# Altium footprint library DM1098FFC.PcbLib: 4 footprints
Each footprint in its own frame and in the unit in brackets; x right, y up, seen from the top. Pads: shape width x height; smd on the part's side, far side on the other; paste and mask are expansions set on the pad; w line width, h text height; cw(c..) or ccw(c..) is an arc to the next point about the centre after c.
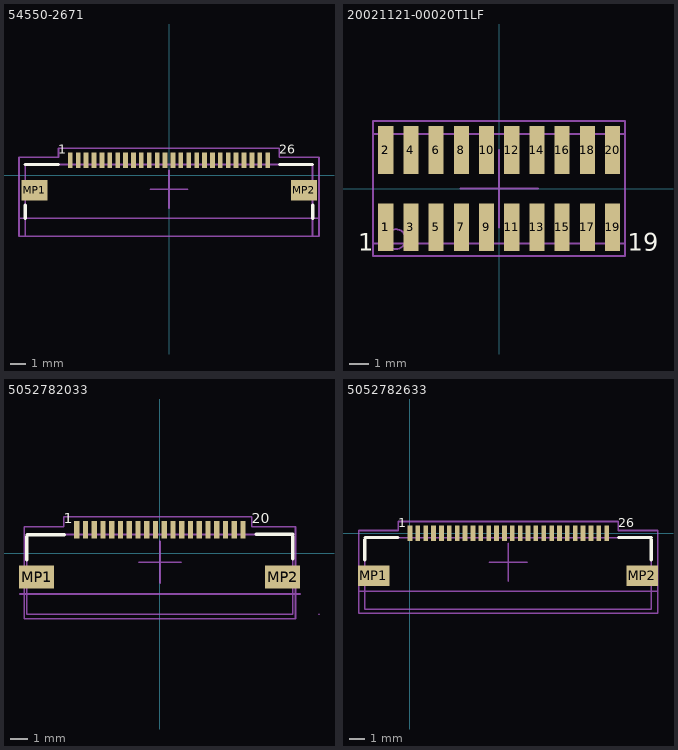
[diagram p0: the footprints below, top view; thin cyan lines are the x and y axes]

## 54550-2671 [mm] "26pin Molex FFC 0.5mm TOP"
height 1.2
pads (28):
  rect 0.3x1 smd: 1(-6.262,0.95) 2(-5.762,0.95) 3(-5.262,0.95) 4(-4.762,0.95) 5(-4.262,0.95) 6(-3.762,0.95) 7(-3.262,0.95) 8(-2.762,0.95) 9(-2.262,0.95) 10(-1.762,0.95) 11(-1.262,0.95) 12(-0.762,0.95) 13(-0.262,0.95) 14(0.238,0.95) 15(0.738,0.95) 16(1.238,0.95) 17(1.738,0.95) 18(2.238,0.95) 19(2.738,0.95) 20(3.238,0.95) 21(3.738,0.95) 22(4.238,0.95) 23(4.738,0.95) 24(5.238,0.95) 25(5.738,0.95) 26(6.238,0.95)
  rect 1.65x1.3 smd: MP1(-8.537,-0.95) MP2(8.538,-0.95)
Top Overlay:
  lines w0.2: -9.112,-2.75 -9.112,-1.89 ; -9.112,0.678 -7.012,0.678 ; 6.977,0.678 9.077,0.678 ; 9.088,-2.75 9.088,-1.89
  text "26" at 6.977,1.128 h1
  text "1" at -7.012,1.128 h1
Top Assembly:
  lines w0.1: -9.512,-3.872 9.488,-3.872 9.488,1.128 6.977,1.128 6.977,1.7 -7.012,1.7 -7.012,1.128 -9.512,1.128 -9.512,-3.872
  text "'.Designator'" at -3.112,-1.6 h1.52
Top Courtyard:
  lines w0.1: -9.512,-2.722 9.488,-2.722 ; -1.212,-0.9 -0.012,-0.9 ; -0.012,-2.1 -0.012,-0.9 ; -0.012,0.3 -0.012,-0.9 ; 1.188,-0.9 -0.012,-0.9 ; -9.512,-3.872 -9.512,-3.662 -9.512,1.128 -7.012,1.128 -7.012,1.7 6.977,1.7 6.977,1.128 9.488,1.128 9.488,-3.872 -9.122,-3.872 -9.512,-3.872
Top Component Outline:
  lines w0.1: -9.122,-3.872 -9.122,0.678 -9.114,0.678 9.077,0.678 9.077,-3.872 9.078,-3.872 -9.122,-3.872
3D body "545502671.stp": height 1.2, standoff 0, extent -9.122,-3.872 9.078,1.128

## 20021121-00020T1LF [mm] "20pin SMT Minitek127 1.27mm pitch"
pads (22):
  rect 0.76x2.4 smd: 1(-5.715,-1.95) 1(-5.715,-1.95) 2(-5.715,1.95) 2(-5.715,1.95) 3(-4.445,-1.95) 4(-4.445,1.95) 5(-3.175,-1.95) 6(-3.175,1.95) 7(-1.905,-1.95) 8(-1.905,1.95) 9(-0.635,-1.95) 10(-0.635,1.95) 11(0.635,-1.95) 12(0.635,1.95) 13(1.905,-1.95) 14(1.905,1.95) 15(3.175,-1.95) 16(3.175,1.95) 17(4.445,-1.95) 18(4.445,1.95) 19(5.715,-1.95) 20(5.715,1.95)
Top Overlay:
  text "1" at -7.112,-3.429 h1.52
  text "19" at 6.477,-3.429 h1.52
Top Assembly:
  lines w0.1: -6.35,-3.4 6.35,-3.4 6.35,3.4 -6.35,3.4 -6.35,-3.4 ; -4.699,-2.54 ccw(c-5.199,-2.54) -4.699,-2.54
  text "'.Designator'" at -4.445,0 h1.52
Top Courtyard:
  lines w0.1: -1.95,0 0.009,0 ; -0.009,0 1.95,0 ; 0,-1.95 0,0.009 ; 0,0 0,1.95 ; -6.35,-3.4 -6.35,3.4 6.35,3.4 6.35,-3.4 -6.35,-3.4
Top Component Outline:
  lines w0.1: -6.35,-2.75 -6.35,2.75 6.35,2.75 6.35,-2.75 -6.345,-2.75 -6.35,-2.75
3D body "20021121-00020T1LF.stp": height 4.55, standoff 0, extent -6.35,-2.75 6.35,2.75

## 5052782033 [mm] "20pin Molex FFC 0.5mm TOP"
height 1.2
pads (22):
  rect 0.3x1 smd: 1(-4.728,1.35) 2(-4.229,1.35) 3(-3.728,1.35) 4(-3.229,1.35) 5(-2.729,1.35) 6(-2.228,1.35) 7(-1.729,1.35) 8(-1.228,1.35) 9(-0.728,1.35) 10(-0.229,1.35) 11(0.272,1.35) 12(0.771,1.35) 13(1.272,1.35) 14(1.772,1.35) 15(2.271,1.35) 16(2.772,1.35) 17(3.271,1.35) 18(3.772,1.35) 19(4.272,1.35) 20(4.771,1.35)
  rect 2x1.3 smd: MP1(-7.029,-1.35) MP2(7.029,-1.35)
Top Overlay:
  lines w0.2: -7.572,-0.345 -7.572,0.945 ; -7.554,1.078 -5.455,1.078 ; 5.521,1.112 7.621,1.112 ; 7.615,-0.311 7.615,0.979
  text "1" at -5.479,1.528 h1
  text "20" at 5.272,1.528 h1
Top Assembly:
  lines w0.1: -7.728,-3.73 -7.728,1.528 -5.479,1.528 -5.479,2.1 5.272,2.1 5.272,1.528 7.772,1.528 7.772,-3.73 -7.728,-3.73
  text "'.Designator'" at -3.079,-1.2 h1.52
Top Courtyard:
  lines w0.1: -7.978,-2.322 8.022,-2.322 ; -1.178,-0.5 0.022,-0.5 ; 0.022,-1.7 0.022,-0.5 ; 0.022,0.7 0.022,-0.5 ; 1.222,-0.5 0.022,-0.5 ; -7.728,-3.73 7.772,-3.73 7.772,1.528 5.272,1.528 5.272,2.1 -5.479,2.1 -5.479,1.528 -7.728,1.528 -7.728,-1.512 -7.728,-3.73
Top Component Outline:
  lines w0.1: -7.587,1.078 -7.587,-3.472 7.613,-3.472 ; -7.579,1.078 7.611,1.078 7.611,-3.472 ; 9.11,-3.472 9.112,-3.472
3D body "5052782033.stp": height 1.88, standoff -0.02, extent -7.755,-3.66 7.745,1.64

## 5052782633 [mm] "26pin Molex FFC 0.5mm TOP"
height 1.2
pads (28):
  rect 0.3x1 smd: 1(0,0) 2(0.5,0) 3(1,0) 4(1.5,0) 5(2,0) 6(2.5,0) 7(3,0) 8(3.5,0) 9(4,0) 10(4.5,0) 11(5,0) 12(5.5,0) 13(6,0) 14(6.5,0) 15(7,0) 16(7.5,0) 17(8,0) 18(8.5,0) 19(9,0) 20(9.5,0) 21(10,0) 22(10.5,0) 23(11,0) 24(11.5,0) 25(12,0) 26(12.5,0)
  rect 2x1.3 smd: MP1(-2.3,-2.7) MP2(14.757,-2.7)
Top Overlay:
  lines w0.2: -2.868,-1.695 -2.868,-0.405 ; -2.85,-0.272 -0.75,-0.272 ; 13.239,-0.272 15.339,-0.272 ; 15.332,-1.695 15.332,-0.405
  text "26" at 13.239,0.178 h1
  text "1" at -0.75,0.178 h1
Top Assembly:
  lines w0.1: -3.25,-5.08 15.75,-5.08 15.75,0.178 13.239,0.178 13.239,0.75 -0.75,0.75 -0.75,0.178 -3.25,0.178 -3.25,-5.08
  text "'.Designator'" at 3.15,-2.55 h1.52
Top Courtyard:
  lines w0.1: -3.25,-3.672 15.75,-3.672 ; 5.05,-1.85 6.25,-1.85 ; 6.25,-3.05 6.25,-1.85 ; 6.25,-0.65 6.25,-1.85 ; 7.45,-1.85 6.25,-1.85 ; -3.25,-5.08 -3.25,-4.612 -3.25,0.178 -0.75,0.178 -0.75,0.75 13.239,0.75 13.239,0.178 15.75,0.178 15.75,-5.08 -2.601,-5.08 -3.25,-5.08
Top Component Outline:
  lines w0.1: -2.859,-4.822 -2.859,-0.272 -2.851,-0.272 15.339,-0.272 15.339,-4.822 15.341,-4.822 -2.859,-4.822
3D body "5052782633.stp": height 1.88, standoff -0.02, extent -3.006,-5.08 15.494,0.22